# EAGLE library part PLUG_20_0.4_5024302012 (library Molex_2)
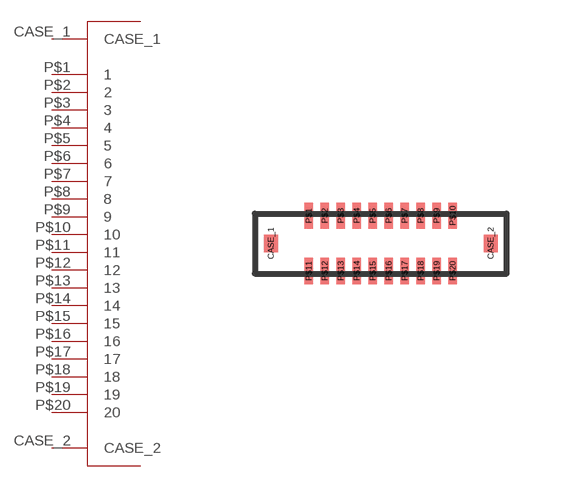
[diagram p1: symbol with the pads of PLUG_20_0.4_5024302012; footprint PLUG_20_0.4_5024302012]

Designator prefix -

## PLUG_20_0.4_5024302012  [PLUG_20_0.4_5024302012]
CASE_1  CASE_1
CASE_2  CASE_2
P$1  1
P$2  2
P$3  3
P$4  4
P$5  5
P$6  6
P$7  7
P$8  8
P$9  9
P$10  10
P$11  11
P$12  12
P$13  13
P$14  14
P$15  15
P$16  16
P$17  17
P$18  18
P$19  19
P$20  20

## Footprint PLUG_20_0.4_5024302012 (pad centres in mm)
smd 0.35 x 0.44: CASE_1 -0.95,-0.69; CASE_2 4.55,-0.69
smd 0.22 x 0.66: P$1 0,0; P$2 0.4,0; P$3 0.8,0; P$4 1.2,0; P$5 1.6,0; P$6 2,0; P$7 2.4,0; P$8 2.8,0; P$9 3.2,0; P$10 3.6,0; P$11 0,-1.38; P$12 0.4,-1.38; P$13 0.8,-1.38; P$14 1.2,-1.38; P$15 1.6,-1.38; P$16 2,-1.38; P$17 2.4,-1.38; P$18 2.8,-1.38; P$19 3.2,-1.38; P$20 3.6,-1.38